# EAGLE library part MY-STUFF_OSO-BOOK-C2-01 (library OSO-BOOK-C3-00)
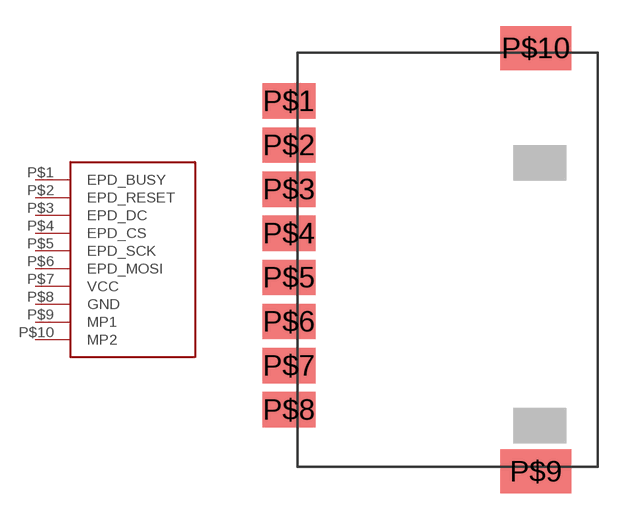
[diagram p4: symbol with the pads of MY-STUFF_OSO-BOOK-C2-01; footprint MY-STUFF_OSO-BOOK-C2-01]

Designator prefix -

## MY-STUFF_OSO-BOOK-C2-01  [MY-STUFF_OSO-BOOK-C2-01]
P$1  EPD_BUSY
P$2  EPD_RESET
P$3  EPD_DC
P$4  EPD_CS
P$5  EPD_SCK
P$6  EPD_MOSI
P$7  VCC
P$8  GND
P$9  MP1
P$10  MP2

## Footprint MY-STUFF_OSO-BOOK-C2-01 (pad centres in mm)
smd 3.048 x 2.032: P$1 -9.144,9.144; P$2 -9.144,6.604; P$3 -9.144,4.064; P$4 -9.144,1.524; P$5 -9.144,-1.016; P$6 -9.144,-3.556; P$7 -9.144,-6.096; P$8 -9.144,-8.636
smd 4.064 x 2.54: P$9 5.08,-12.192; P$10 5.08,12.192